# EAGLE library part SIMHOLDER (library SIM Com)
Alternate SIM card socket.
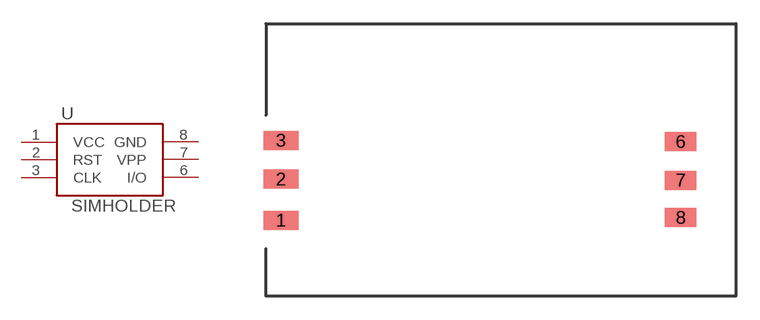
[diagram p1: symbol with the pads of SIMHOLDER; footprint SIMHOLDER]

Designator prefix -

## SIMHOLDER  [SIMHOLDER]
1  VCC  pwr
2  RST
3  CLK
6  I/O
7  VPP
8  GND  pwr

## Footprint SIMHOLDER (pad centres in mm)
smd 2.2 x 1.2: 1 0.95,4.81; 2 0.95,7.41; 3 0.95,9.86
smd 2 x 1.2: 6 26.22,9.78; 7 26.22,7.34; 8 26.22,4.98